# Altium integrated library Linear Technology Power Management Switching Regulator LTC1174-LTC3901.IntLib: 2647 symbols (part 170 of 364)
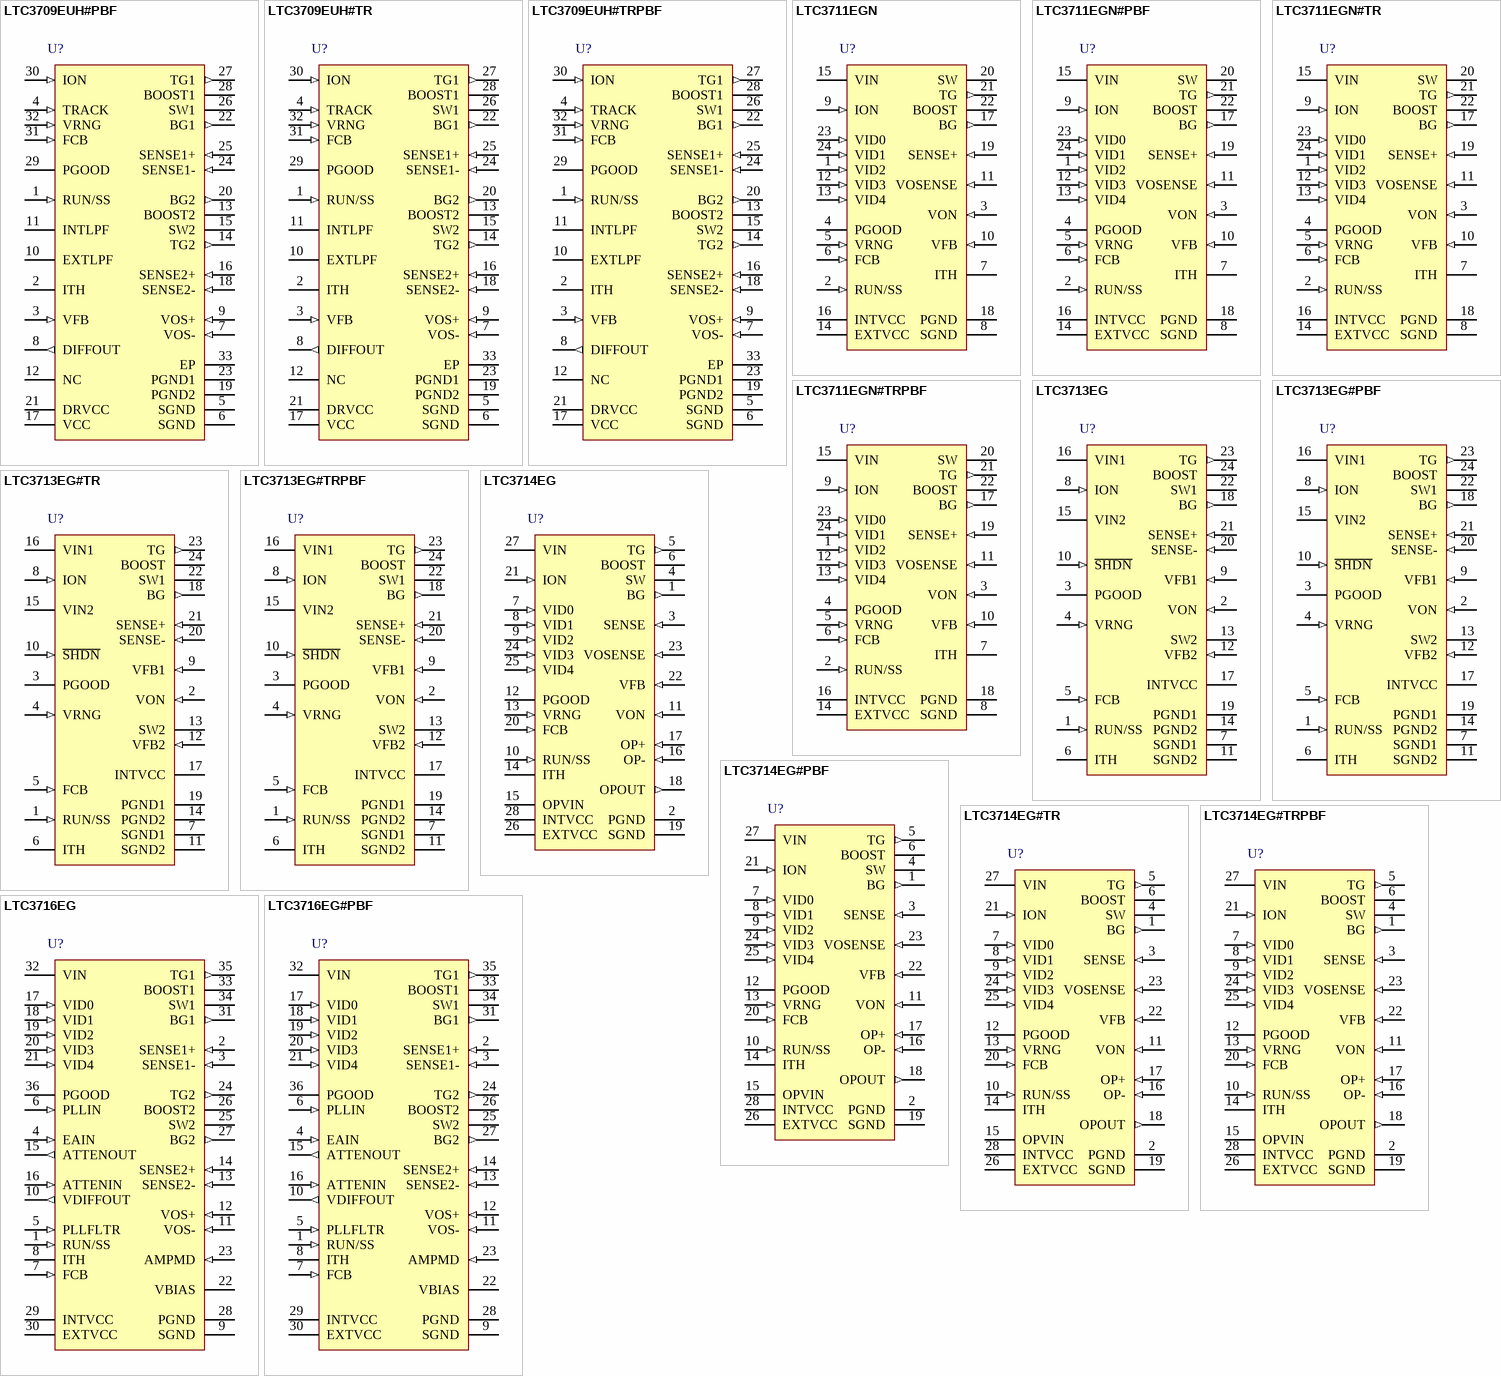
[diagram p202: symbols LTC3709EUH#PBF to LTC3716EG#PBF]

## LTC3709EUH#TR
designator U?
Fast 2-Phase, No Rsense Synchronous DC/DC Controller with Tracking / Sequencing, 32-pin QFN (UH-32), -40 to 85 degC, Tape and Reel; Manufacturer: Linear Technology; PartNumber: LTC3709EUH#TR; Number of Outputs: 1; DatasheetVersion: Rev. B; PackageVersion: Rev. D, 06/2010; PackageReference: UH-32; PackageDescription: 32-Pin Plastic QFN, Body 5 x 5 mm, Pitch 0.5 mm; Packing: Tape and Reel; RoHS: FALSE; Mounting Technology: Surface Mount; Code_JEDEC: MO-220; ComponentLink1Description: Manufacturer URL; ComponentLink1URL: http://www.linear.com/; ComponentLink2Description: Datasheet; ComponentLink2URL: http://cds.linear.com/docs/en/datasheet/3709fb.pdf; ComponentLink3Description: Package Specification; ComponentLink3URL: http://cds.linear.com/docs/en/packaging/QFN_32_05-08-1693.pdf
footprint LT-UH-32_N (QFN, 32-Leads, Body 5.1x5.1mm, Pitch 0.5mm, Thermal Pad 3.45X3.45mm, IPC Medium Density)
footprint LT-UH-32_L (QFN, 32-Leads, Body 5.1x5.1mm, Pitch 0.5mm, Thermal Pad 3.45X3.45mm, IPC High Density)
footprint LT-UH-32_M (QFN, 32-Leads, Body 5.1x5.1mm, Pitch 0.5mm, Thermal Pad 3.45X3.45mm, IPC Low Density)
pins: 1 RUN/SS (in) "Run Control and Soft-Start Input. A capacitor to ground at this pin sets the ramp rate of the output voltage (approximately 0.5s/uF) and the time delay for overcurrent latch-off (see Applications Information). Forcing this (See Datasheet)", 2 ITH "Error Amplifier Compensation Point. The current comparator threshold increases with this control voltage. The voltage ranges from 0V to 2.4V with 0.8V corresponding to zero sense voltage (zero current).", 3 VFB (in) "Error Amplifier Feedback Input. This pin connects to the error amplifier input. It can be used to attach additional compensation components if desired.", 4 TRACK (in) "Tie the TRACK pin to a resistive divider connected to the output of another LTC3709 for either coincident or ratiometric output tracking (see Applications Information). To disable this feature, tie the pin to VCC. Do Not (See Datasheet)", 5 SGND (power) "Signal Ground. All small-signal components such as CSS and compensation components should connect to this ground and eventually connect to PGND at one point. The Exposed Pad of the QFN package must be soldered to PCB ground.", 6 SGND (power) "Signal Ground. All small-signal components such as CSS and compensation components should connect to this ground and eventually connect to PGND at one point. The Exposed Pad of the QFN package must be soldered to PCB ground.", 7 VOS- (in) "The (-) Input to the Differential Amplifer.", 8 DIFFOUT (out) "The Output of the Differential Amplifier.", 9 VOS+ (in) "The (+) Input to the Differential Amplifier.", 10 EXTLPF "Filter Connection for the PLL. This PLL is used to synchronize the LTC3709 with an external clock.", 11 INTLPF "Filter Connection for the PLL. This PLL is use to phase shift the second channel to the first channel by 180degrees.", 12 NC "No Connect.", 13 BOOST2 "Boosted Floating Driver Supply. The (+) terminal of the bootstrap capacitor CB connects here. This pin swings from a diode voltage drop below DRVCC up to VIN + DRVCC.", 14 TG2 (out) "Top Gate Drive. Drives the top N-channel MOSFET with a voltage swing equal to DRVCC superimposed on the switch node voltage SW.", 15 SW2 "Switch Node. The (-) terminal of the bootstrap capacitor CB connects here. This pin swings from a Schottky diode voltage drop below ground up to VIN.", 16 SENSE2+ (in) "Current Sense Comparator Input. The (+) input to the current comparator is normally connected to the SW node unless using a sense resistor (see Applications Information).", 17 VCC (power) "Main Input Supply. Decouple this pin to SGND with an RC filter (1ohm, 0.1uF).", 18 SENSE2- (in) "Current Sense Comparator Input. The (-) input to the current comparator is used to accurately Kelvin sense the bottom side of the sense resistor or MOSFET.", 19 PGND2 (power) "Power Ground. Connect this pin closely to the source of the bottom Nchannel MOSFET, the (-) terminal of CDRVCC and the (-) terminal of CIN.", 20 BG2 (out) "Bottom Gate Drive. Drives the gate of the bottom N-channel MOSFET between ground and DRVCC.", 21 DRVCC (power) "Driver Supply. Provides supply to the driver for the bottom gate. Also used for charging the bootstrap capacitor.", 22 BG1 (out) "Bottom Gate Drive. Drives the gate of the bottom N-channel MOSFET between ground and DRVCC.", 23 PGND1 (power) "Power Ground. Connect this pin closely to the source of the bottom Nchannel MOSFET, the (-) terminal of CDRVCC and the (-) terminal of CIN.", 24 SENSE1- (in) "Current Sense Comparator Input. The (-) input to the current comparator is used to accurately Kelvin sense the bottom side of the sense resistor or MOSFET.", 25 SENSE1+ (in) "Current Sense Comparator Input. The (+) input to the current comparator is normally connected to the SW node unless using a sense resistor (see Applications Information).", 26 SW1 "Switch Node. The (-) terminal of the bootstrap capacitor CB connects here. This pin swings from a Schottky diode voltage drop below ground up to VIN.", 27 TG1 (out) "Top Gate Drive. Drives the top N-channel MOSFET with a voltage swing equal to DRVCC superimposed on the switch node voltage SW.", 28 BOOST1 "Boosted Floating Driver Supply. The (+) terminal of the bootstrap capacitor CB connects here. This pin swings from a diode voltage drop below DRVCC up to VIN + DRVCC.", 29 PGOOD (oc) "Power Good Output. Open-drain logic output that is pulled to ground when output voltage is not within +/-10% of the regulation point. The output voltage must be out of regulation for at least 100us before the power good (See Datasheet)", 30 ION (in) "On-Time Current Input. Tie a resistor from VIN to this pin to set the one-shot timer current and thereby set the switching frequency.", 31 FCB (in) "Forced Continuous and External Clock Input. Tie this pin to ground to force continuous synchronous operation or to VCC to enable discontinuous mode operation at light load. Feeding an external clock signal into this pin will (See Datasheet)", 32 VRNG (in) "Sense Voltage Range Input. The voltage at this pin is ten times the nominal sense voltage at maximum output current and can be programmed from 0.5V to 2V. The sense voltage defaults to 70mV when this pin is tied to ground, (See Datasheet)", 33 EP (power) "Signal Ground. All small-signal components such as CSS and compensation components should connect to this ground and eventually connect to PGND at one point. The Exposed Pad of the QFN package must be soldered to PCB ground."

## LTC3709EUH#TRPBF
designator U?
Fast 2-Phase, No Rsense Synchronous DC/DC Controller with Tracking / Sequencing, 32-pin QFN (UH-32), -40 to 85 degC, Pb-Free, Tape and Reel; Manufacturer: Linear Technology; PartNumber: LTC3709EUH#TRPBF; Number of Outputs: 1; DatasheetVersion: Rev. B; PackageVersion: Rev. D, 06/2010; PackageReference: UH-32; PackageDescription: 32-Pin Plastic QFN, Body 5 x 5 mm, Pitch 0.5 mm; Supplier 1: Digi-Key; Supplier Part Number 1: LTC3709EUH#TRPBF-ND; Packing: Tape and Reel; RoHS: TRUE; Mounting Technology: Surface Mount; Code_JEDEC: MO-220; ComponentLink1Description: Manufacturer URL; ComponentLink1URL: http://www.linear.com/; ComponentLink2Description: Datasheet; ComponentLink2URL: http://cds.linear.com/docs/en/datasheet/3709fb.pdf; ComponentLink3Description: Package Specification; ComponentLink3URL: http://cds.linear.com/docs/en/packaging/QFN_32_05-08-1693.pdf
footprint LT-UH-32_N (QFN, 32-Leads, Body 5.1x5.1mm, Pitch 0.5mm, Thermal Pad 3.45X3.45mm, IPC Medium Density)
footprint LT-UH-32_L (QFN, 32-Leads, Body 5.1x5.1mm, Pitch 0.5mm, Thermal Pad 3.45X3.45mm, IPC High Density)
footprint LT-UH-32_M (QFN, 32-Leads, Body 5.1x5.1mm, Pitch 0.5mm, Thermal Pad 3.45X3.45mm, IPC Low Density)
pins: 1 RUN/SS (in) "Run Control and Soft-Start Input. A capacitor to ground at this pin sets the ramp rate of the output voltage (approximately 0.5s/uF) and the time delay for overcurrent latch-off (see Applications Information). Forcing this (See Datasheet)", 2 ITH "Error Amplifier Compensation Point. The current comparator threshold increases with this control voltage. The voltage ranges from 0V to 2.4V with 0.8V corresponding to zero sense voltage (zero current).", 3 VFB (in) "Error Amplifier Feedback Input. This pin connects to the error amplifier input. It can be used to attach additional compensation components if desired.", 4 TRACK (in) "Tie the TRACK pin to a resistive divider connected to the output of another LTC3709 for either coincident or ratiometric output tracking (see Applications Information). To disable this feature, tie the pin to VCC. Do Not (See Datasheet)", 5 SGND (power) "Signal Ground. All small-signal components such as CSS and compensation components should connect to this ground and eventually connect to PGND at one point. The Exposed Pad of the QFN package must be soldered to PCB ground.", 6 SGND (power) "Signal Ground. All small-signal components such as CSS and compensation components should connect to this ground and eventually connect to PGND at one point. The Exposed Pad of the QFN package must be soldered to PCB ground.", 7 VOS- (in) "The (-) Input to the Differential Amplifer.", 8 DIFFOUT (out) "The Output of the Differential Amplifier.", 9 VOS+ (in) "The (+) Input to the Differential Amplifier.", 10 EXTLPF "Filter Connection for the PLL. This PLL is used to synchronize the LTC3709 with an external clock.", 11 INTLPF "Filter Connection for the PLL. This PLL is use to phase shift the second channel to the first channel by 180degrees.", 12 NC "No Connect.", 13 BOOST2 "Boosted Floating Driver Supply. The (+) terminal of the bootstrap capacitor CB connects here. This pin swings from a diode voltage drop below DRVCC up to VIN + DRVCC.", 14 TG2 (out) "Top Gate Drive. Drives the top N-channel MOSFET with a voltage swing equal to DRVCC superimposed on the switch node voltage SW.", 15 SW2 "Switch Node. The (-) terminal of the bootstrap capacitor CB connects here. This pin swings from a Schottky diode voltage drop below ground up to VIN.", 16 SENSE2+ (in) "Current Sense Comparator Input. The (+) input to the current comparator is normally connected to the SW node unless using a sense resistor (see Applications Information).", 17 VCC (power) "Main Input Supply. Decouple this pin to SGND with an RC filter (1ohm, 0.1uF).", 18 SENSE2- (in) "Current Sense Comparator Input. The (-) input to the current comparator is used to accurately Kelvin sense the bottom side of the sense resistor or MOSFET.", 19 PGND2 (power) "Power Ground. Connect this pin closely to the source of the bottom Nchannel MOSFET, the (-) terminal of CDRVCC and the (-) terminal of CIN.", 20 BG2 (out) "Bottom Gate Drive. Drives the gate of the bottom N-channel MOSFET between ground and DRVCC.", 21 DRVCC (power) "Driver Supply. Provides supply to the driver for the bottom gate. Also used for charging the bootstrap capacitor.", 22 BG1 (out) "Bottom Gate Drive. Drives the gate of the bottom N-channel MOSFET between ground and DRVCC.", 23 PGND1 (power) "Power Ground. Connect this pin closely to the source of the bottom Nchannel MOSFET, the (-) terminal of CDRVCC and the (-) terminal of CIN.", 24 SENSE1- (in) "Current Sense Comparator Input. The (-) input to the current comparator is used to accurately Kelvin sense the bottom side of the sense resistor or MOSFET.", 25 SENSE1+ (in) "Current Sense Comparator Input. The (+) input to the current comparator is normally connected to the SW node unless using a sense resistor (see Applications Information).", 26 SW1 "Switch Node. The (-) terminal of the bootstrap capacitor CB connects here. This pin swings from a Schottky diode voltage drop below ground up to VIN.", 27 TG1 (out) "Top Gate Drive. Drives the top N-channel MOSFET with a voltage swing equal to DRVCC superimposed on the switch node voltage SW.", 28 BOOST1 "Boosted Floating Driver Supply. The (+) terminal of the bootstrap capacitor CB connects here. This pin swings from a diode voltage drop below DRVCC up to VIN + DRVCC.", 29 PGOOD (oc) "Power Good Output. Open-drain logic output that is pulled to ground when output voltage is not within +/-10% of the regulation point. The output voltage must be out of regulation for at least 100us before the power good (See Datasheet)", 30 ION (in) "On-Time Current Input. Tie a resistor from VIN to this pin to set the one-shot timer current and thereby set the switching frequency.", 31 FCB (in) "Forced Continuous and External Clock Input. Tie this pin to ground to force continuous synchronous operation or to VCC to enable discontinuous mode operation at light load. Feeding an external clock signal into this pin will (See Datasheet)", 32 VRNG (in) "Sense Voltage Range Input. The voltage at this pin is ten times the nominal sense voltage at maximum output current and can be programmed from 0.5V to 2V. The sense voltage defaults to 70mV when this pin is tied to ground, (See Datasheet)", 33 EP (power) "Signal Ground. All small-signal components such as CSS and compensation components should connect to this ground and eventually connect to PGND at one point. The Exposed Pad of the QFN package must be soldered to PCB ground."

## LTC3711EGN
designator U?
5-Bit Adjustable, Wide Operating Range, No Rsense Step-Down Controller, 24-pin SOP (GN-24), -40 to 85 degC; Manufacturer: Linear Technology; PartNumber: LTC3711EGN; Number of Outputs: 1; PackageVersion: Rev. B, 03/2012; PackageReference: GN24; PackageDescription: 24-Pin Plastic SSOP , Body 8.5 x 3.9 mm, Pitch 0.635 mm; Supplier 1: Digi-Key; Supplier Part Number 1: LTC3711EGN-ND; RoHS: FALSE; Mounting Technology: Surface Mount; ComponentLink1Description: Manufacturer URL; ComponentLink1URL: http://www.linear.com/; ComponentLink2Description: Datasheet; ComponentLink2URL: http://cds.linear.com/docs/en/datasheet/3711f.pdf; ComponentLink3Description: Package Specification; ComponentLink3URL: http://cds.linear.com/docs/en/packaging/05081641_B_GN24.pdf
footprint LT-GN-24_N (SOP, 24-Leads, Body 8.7x4mm, Pitch 0.635mm, IPC Medium Density)
footprint LT-GN-24_L (SOP, 24-Leads, Body 8.7x4mm, Pitch 0.635mm, IPC High Density)
footprint LT-GN-24_M (SOP, 24-Leads, Body 8.7x4mm, Pitch 0.635mm, IPC Low Density)
pins: 1 VID2 (in) "VID Digital Inputs. The voltage identification (VID) code sets the internal feedback resistor divider ratio for different output voltages as shown in Table 1. If unconnected, the pins are pulled high by internal 2.5uA (See Datasheet)", 2 RUN/SS (in) "Run Control and Soft-Start Input. A capacitor to ground at this pin sets the ramp time to full output current (approximately 3s/uF) and the time delay for overcurrent latchoff (see Applications Information). Forcing this pin (See Datasheet)", 3 VON (in) "On-Time Voltage Input. Voltage trip point for the on-time comparator. Tying this pin to the output voltage makes the on-time proportional to VOUT. The comparator input defaults to 0.7V when the pin is grounded, 2.4V when the (See Datasheet)", 4 PGOOD (oc) "Power Good Output. Open drain logic output that is pulled to ground when the output voltage is not within +/-7.5% of the regulation point.", 5 VRNG (in) "Sense Voltage Range Input. The voltage at this pin is ten times the nominal sense voltage at maximum output current and can be set from 0.5V to 2V by a resistive divider from INTVCC. The nominal sense voltage defaults to (See Datasheet)", 6 FCB (in) "Forced Continuous Input. Tie this pin to ground to force continuous synchronous operation at low load, to INTVCC to enable discontinuous mode operation at low load or to a resistive divider from a secondary output when using (See Datasheet)", 7 ITH "Current Control Threshold and Error Amplifier Compensation Point. The current comparator threshold increases with this control voltage. The voltage ranges from 0V to 2.4V with 0.8V corresponding to zero sense voltage (zero (See Datasheet)", 8 SGND (power) "Signal Ground. All small-signal components and compensation components should connect to this ground, which in turn connects to PGND at one point.", 9 ION (in) "On-Time Current Input. Tie a resistor from VIN to this pin to set the one-shot timer current and thereby set the switching frequency.", 10 VFB (in) "Error Amplifier Feedback Input. This pin connects to both the error amplifier input and to the output of the internal resistive divider. It can be used to attach additional compensation components if desired.", 11 VOSENSE (in) "Output Voltage Sense. The output voltage connects here to the input of the internal resistive feedback divider.", 12 VID3 (in) "VID Digital Inputs. The voltage identification (VID) code sets the internal feedback resistor divider ratio for different output voltages as shown in Table 1. If unconnected, the pins are pulled high by internal 2.5uA (See Datasheet)", 13 VID4 (in) "VID Digital Inputs. The voltage identification (VID) code sets the internal feedback resistor divider ratio for different output voltages as shown in Table 1. If unconnected, the pins are pulled high by internal 2.5uA (See Datasheet)", 14 EXTVCC (power) "External VCC Input. When EXTVCC exceeds 4.7V, an internal switch connects this pin to INTVCC and shuts down the internal regulator so that controller and gate drive power is drawn from EXTVCC. Do not exceed 7V at this pin (See Datasheet)", 15 VIN (power) "Main Input Supply. Decouple this pin to PGND with an RC filter (1ohm, 0.1uF).", 16 INTVCC (power) "Internal 5V Regulator Output. The driver and control circuits are powered from this voltage. Decouple this pin to power ground with a minimum of 4.7uF low ESR tantalum capacitor.", 17 BG (out) "Bottom Gate Drive. Drives the gate of the bottom N-channel MOSFET between ground and INTVCC.", 18 PGND (power) "Power Ground. Connect this pin closely to the source of the bottom N-channel MOSFET, the (-) terminal of CVCC and the (-) terminal of CIN.", 19 SENSE+ (in) "Current Sense Comparator Input. The (+) input to the current comparator is normally connected to the SW node unless using a sense resistor (see Applications Information).", 20 SW "Switch Node. The (-) terminal of the bootstrap capacitor CB connects here. This pin swings from a diode voltage drop below ground up to VIN.", 21 TG (out) "Top Gate Drive. Drives the top N-channel MOSFET with a voltage swing equal to INTVCC superimposed on the switch node voltage SW.", 22 BOOST "Boosted Floating Driver Supply. The (+) terminal of the bootstrap capacitor CB connects here. This pin swings from a diode voltage drop below INTVCC up to VIN + INTVCC.", 23 VID0 (in) "VID Digital Inputs. The voltage identification (VID) code sets the internal feedback resistor divider ratio for different output voltages as shown in Table 1. If unconnected, the pins are pulled high by internal 2.5uA (See Datasheet)", 24 VID1 (in) "VID Digital Inputs. The voltage identification (VID) code sets the internal feedback resistor divider ratio for different output voltages as shown in Table 1. If unconnected, the pins are pulled high by internal 2.5uA (See Datasheet)"

## LTC3711EGN#PBF
designator U?
5-Bit Adjustable, Wide Operating Range, No Rsense Step-Down Controller, 24-pin SOP (GN-24), -40 to 85 degC, Pb-Free; Manufacturer: Linear Technology; PartNumber: LTC3711EGN#PBF; Number of Outputs: 1; PackageVersion: Rev. B, 03/2012; PackageReference: GN24; PackageDescription: 24-Pin Plastic SSOP , Body 8.5 x 3.9 mm, Pitch 0.635 mm; Supplier 1: Digi-Key; Supplier Part Number 1: LTC3711EGN#PBF-ND; RoHS: TRUE; Mounting Technology: Surface Mount; ComponentLink1Description: Manufacturer URL; ComponentLink1URL: http://www.linear.com/; ComponentLink2Description: Datasheet; ComponentLink2URL: http://cds.linear.com/docs/en/datasheet/3711f.pdf; ComponentLink3Description: Package Specification; ComponentLink3URL: http://cds.linear.com/docs/en/packaging/05081641_B_GN24.pdf
footprint LT-GN-24_N (SOP, 24-Leads, Body 8.7x4mm, Pitch 0.635mm, IPC Medium Density)
footprint LT-GN-24_L (SOP, 24-Leads, Body 8.7x4mm, Pitch 0.635mm, IPC High Density)
footprint LT-GN-24_M (SOP, 24-Leads, Body 8.7x4mm, Pitch 0.635mm, IPC Low Density)
pins: 1 VID2 (in) "VID Digital Inputs. The voltage identification (VID) code sets the internal feedback resistor divider ratio for different output voltages as shown in Table 1. If unconnected, the pins are pulled high by internal 2.5uA (See Datasheet)", 2 RUN/SS (in) "Run Control and Soft-Start Input. A capacitor to ground at this pin sets the ramp time to full output current (approximately 3s/uF) and the time delay for overcurrent latchoff (see Applications Information). Forcing this pin (See Datasheet)", 3 VON (in) "On-Time Voltage Input. Voltage trip point for the on-time comparator. Tying this pin to the output voltage makes the on-time proportional to VOUT. The comparator input defaults to 0.7V when the pin is grounded, 2.4V when the (See Datasheet)", 4 PGOOD (oc) "Power Good Output. Open drain logic output that is pulled to ground when the output voltage is not within +/-7.5% of the regulation point.", 5 VRNG (in) "Sense Voltage Range Input. The voltage at this pin is ten times the nominal sense voltage at maximum output current and can be set from 0.5V to 2V by a resistive divider from INTVCC. The nominal sense voltage defaults to (See Datasheet)", 6 FCB (in) "Forced Continuous Input. Tie this pin to ground to force continuous synchronous operation at low load, to INTVCC to enable discontinuous mode operation at low load or to a resistive divider from a secondary output when using (See Datasheet)", 7 ITH "Current Control Threshold and Error Amplifier Compensation Point. The current comparator threshold increases with this control voltage. The voltage ranges from 0V to 2.4V with 0.8V corresponding to zero sense voltage (zero (See Datasheet)", 8 SGND (power) "Signal Ground. All small-signal components and compensation components should connect to this ground, which in turn connects to PGND at one point.", 9 ION (in) "On-Time Current Input. Tie a resistor from VIN to this pin to set the one-shot timer current and thereby set the switching frequency.", 10 VFB (in) "Error Amplifier Feedback Input. This pin connects to both the error amplifier input and to the output of the internal resistive divider. It can be used to attach additional compensation components if desired.", 11 VOSENSE (in) "Output Voltage Sense. The output voltage connects here to the input of the internal resistive feedback divider.", 12 VID3 (in) "VID Digital Inputs. The voltage identification (VID) code sets the internal feedback resistor divider ratio for different output voltages as shown in Table 1. If unconnected, the pins are pulled high by internal 2.5uA (See Datasheet)", 13 VID4 (in) "VID Digital Inputs. The voltage identification (VID) code sets the internal feedback resistor divider ratio for different output voltages as shown in Table 1. If unconnected, the pins are pulled high by internal 2.5uA (See Datasheet)", 14 EXTVCC (power) "External VCC Input. When EXTVCC exceeds 4.7V, an internal switch connects this pin to INTVCC and shuts down the internal regulator so that controller and gate drive power is drawn from EXTVCC. Do not exceed 7V at this pin (See Datasheet)", 15 VIN (power) "Main Input Supply. Decouple this pin to PGND with an RC filter (1ohm, 0.1uF).", 16 INTVCC (power) "Internal 5V Regulator Output. The driver and control circuits are powered from this voltage. Decouple this pin to power ground with a minimum of 4.7uF low ESR tantalum capacitor.", 17 BG (out) "Bottom Gate Drive. Drives the gate of the bottom N-channel MOSFET between ground and INTVCC.", 18 PGND (power) "Power Ground. Connect this pin closely to the source of the bottom N-channel MOSFET, the (-) terminal of CVCC and the (-) terminal of CIN.", 19 SENSE+ (in) "Current Sense Comparator Input. The (+) input to the current comparator is normally connected to the SW node unless using a sense resistor (see Applications Information).", 20 SW "Switch Node. The (-) terminal of the bootstrap capacitor CB connects here. This pin swings from a diode voltage drop below ground up to VIN.", 21 TG (out) "Top Gate Drive. Drives the top N-channel MOSFET with a voltage swing equal to INTVCC superimposed on the switch node voltage SW.", 22 BOOST "Boosted Floating Driver Supply. The (+) terminal of the bootstrap capacitor CB connects here. This pin swings from a diode voltage drop below INTVCC up to VIN + INTVCC.", 23 VID0 (in) "VID Digital Inputs. The voltage identification (VID) code sets the internal feedback resistor divider ratio for different output voltages as shown in Table 1. If unconnected, the pins are pulled high by internal 2.5uA (See Datasheet)", 24 VID1 (in) "VID Digital Inputs. The voltage identification (VID) code sets the internal feedback resistor divider ratio for different output voltages as shown in Table 1. If unconnected, the pins are pulled high by internal 2.5uA (See Datasheet)"

## LTC3711EGN#TR
designator U?
5-Bit Adjustable, Wide Operating Range, No Rsense Step-Down Controller, 24-pin SOP (GN-24), -40 to 85 degC, Tape and Reel; Manufacturer: Linear Technology; PartNumber: LTC3711EGN#TR; Number of Outputs: 1; PackageVersion: Rev. B, 03/2012; PackageReference: GN24; PackageDescription: 24-Pin Plastic SSOP , Body 8.5 x 3.9 mm, Pitch 0.635 mm; Supplier 1: Digi-Key; Supplier Part Number 1: LTC3711EGNTR-ND; Packing: Tape and Reel; RoHS: FALSE; Mounting Technology: Surface Mount; ComponentLink1Description: Manufacturer URL; ComponentLink1URL: http://www.linear.com/; ComponentLink2Description: Datasheet; ComponentLink2URL: http://cds.linear.com/docs/en/datasheet/3711f.pdf; ComponentLink3Description: Package Specification; ComponentLink3URL: http://cds.linear.com/docs/en/packaging/05081641_B_GN24.pdf
footprint LT-GN-24_N (SOP, 24-Leads, Body 8.7x4mm, Pitch 0.635mm, IPC Medium Density)
footprint LT-GN-24_L (SOP, 24-Leads, Body 8.7x4mm, Pitch 0.635mm, IPC High Density)
footprint LT-GN-24_M (SOP, 24-Leads, Body 8.7x4mm, Pitch 0.635mm, IPC Low Density)
pins: 1 VID2 (in) "VID Digital Inputs. The voltage identification (VID) code sets the internal feedback resistor divider ratio for different output voltages as shown in Table 1. If unconnected, the pins are pulled high by internal 2.5uA (See Datasheet)", 2 RUN/SS (in) "Run Control and Soft-Start Input. A capacitor to ground at this pin sets the ramp time to full output current (approximately 3s/uF) and the time delay for overcurrent latchoff (see Applications Information). Forcing this pin (See Datasheet)", 3 VON (in) "On-Time Voltage Input. Voltage trip point for the on-time comparator. Tying this pin to the output voltage makes the on-time proportional to VOUT. The comparator input defaults to 0.7V when the pin is grounded, 2.4V when the (See Datasheet)", 4 PGOOD (oc) "Power Good Output. Open drain logic output that is pulled to ground when the output voltage is not within +/-7.5% of the regulation point.", 5 VRNG (in) "Sense Voltage Range Input. The voltage at this pin is ten times the nominal sense voltage at maximum output current and can be set from 0.5V to 2V by a resistive divider from INTVCC. The nominal sense voltage defaults to (See Datasheet)", 6 FCB (in) "Forced Continuous Input. Tie this pin to ground to force continuous synchronous operation at low load, to INTVCC to enable discontinuous mode operation at low load or to a resistive divider from a secondary output when using (See Datasheet)", 7 ITH "Current Control Threshold and Error Amplifier Compensation Point. The current comparator threshold increases with this control voltage. The voltage ranges from 0V to 2.4V with 0.8V corresponding to zero sense voltage (zero (See Datasheet)", 8 SGND (power) "Signal Ground. All small-signal components and compensation components should connect to this ground, which in turn connects to PGND at one point.", 9 ION (in) "On-Time Current Input. Tie a resistor from VIN to this pin to set the one-shot timer current and thereby set the switching frequency.", 10 VFB (in) "Error Amplifier Feedback Input. This pin connects to both the error amplifier input and to the output of the internal resistive divider. It can be used to attach additional compensation components if desired.", 11 VOSENSE (in) "Output Voltage Sense. The output voltage connects here to the input of the internal resistive feedback divider.", 12 VID3 (in) "VID Digital Inputs. The voltage identification (VID) code sets the internal feedback resistor divider ratio for different output voltages as shown in Table 1. If unconnected, the pins are pulled high by internal 2.5uA (See Datasheet)", 13 VID4 (in) "VID Digital Inputs. The voltage identification (VID) code sets the internal feedback resistor divider ratio for different output voltages as shown in Table 1. If unconnected, the pins are pulled high by internal 2.5uA (See Datasheet)", 14 EXTVCC (power) "External VCC Input. When EXTVCC exceeds 4.7V, an internal switch connects this pin to INTVCC and shuts down the internal regulator so that controller and gate drive power is drawn from EXTVCC. Do not exceed 7V at this pin (See Datasheet)", 15 VIN (power) "Main Input Supply. Decouple this pin to PGND with an RC filter (1ohm, 0.1uF).", 16 INTVCC (power) "Internal 5V Regulator Output. The driver and control circuits are powered from this voltage. Decouple this pin to power ground with a minimum of 4.7uF low ESR tantalum capacitor.", 17 BG (out) "Bottom Gate Drive. Drives the gate of the bottom N-channel MOSFET between ground and INTVCC.", 18 PGND (power) "Power Ground. Connect this pin closely to the source of the bottom N-channel MOSFET, the (-) terminal of CVCC and the (-) terminal of CIN.", 19 SENSE+ (in) "Current Sense Comparator Input. The (+) input to the current comparator is normally connected to the SW node unless using a sense resistor (see Applications Information).", 20 SW "Switch Node. The (-) terminal of the bootstrap capacitor CB connects here. This pin swings from a diode voltage drop below ground up to VIN.", 21 TG (out) "Top Gate Drive. Drives the top N-channel MOSFET with a voltage swing equal to INTVCC superimposed on the switch node voltage SW.", 22 BOOST "Boosted Floating Driver Supply. The (+) terminal of the bootstrap capacitor CB connects here. This pin swings from a diode voltage drop below INTVCC up to VIN + INTVCC.", 23 VID0 (in) "VID Digital Inputs. The voltage identification (VID) code sets the internal feedback resistor divider ratio for different output voltages as shown in Table 1. If unconnected, the pins are pulled high by internal 2.5uA (See Datasheet)", 24 VID1 (in) "VID Digital Inputs. The voltage identification (VID) code sets the internal feedback resistor divider ratio for different output voltages as shown in Table 1. If unconnected, the pins are pulled high by internal 2.5uA (See Datasheet)"

## LTC3711EGN#TRPBF
designator U?
5-Bit Adjustable, Wide Operating Range, No Rsense Step-Down Controller, 24-pin SOP (GN-24), -40 to 85 degC, Pb-Free, Tape and Reel; Manufacturer: Linear Technology; PartNumber: LTC3711EGN#TRPBF; Number of Outputs: 1; PackageVersion: Rev. B, 03/2012; PackageReference: GN24; PackageDescription: 24-Pin Plastic SSOP , Body 8.5 x 3.9 mm, Pitch 0.635 mm; Supplier 1: Digi-Key; Supplier Part Number 1: LTC3711EGN#TRPBF-ND; Packing: Tape and Reel; RoHS: TRUE; Mounting Technology: Surface Mount; ComponentLink1Description: Manufacturer URL; ComponentLink1URL: http://www.linear.com/; ComponentLink2Description: Datasheet; ComponentLink2URL: http://cds.linear.com/docs/en/datasheet/3711f.pdf; ComponentLink3Description: Package Specification; ComponentLink3URL: http://cds.linear.com/docs/en/packaging/05081641_B_GN24.pdf
footprint LT-GN-24_N (SOP, 24-Leads, Body 8.7x4mm, Pitch 0.635mm, IPC Medium Density)
footprint LT-GN-24_L (SOP, 24-Leads, Body 8.7x4mm, Pitch 0.635mm, IPC High Density)
footprint LT-GN-24_M (SOP, 24-Leads, Body 8.7x4mm, Pitch 0.635mm, IPC Low Density)
pins: 1 VID2 (in) "VID Digital Inputs. The voltage identification (VID) code sets the internal feedback resistor divider ratio for different output voltages as shown in Table 1. If unconnected, the pins are pulled high by internal 2.5uA (See Datasheet)", 2 RUN/SS (in) "Run Control and Soft-Start Input. A capacitor to ground at this pin sets the ramp time to full output current (approximately 3s/uF) and the time delay for overcurrent latchoff (see Applications Information). Forcing this pin (See Datasheet)", 3 VON (in) "On-Time Voltage Input. Voltage trip point for the on-time comparator. Tying this pin to the output voltage makes the on-time proportional to VOUT. The comparator input defaults to 0.7V when the pin is grounded, 2.4V when the (See Datasheet)", 4 PGOOD (oc) "Power Good Output. Open drain logic output that is pulled to ground when the output voltage is not within +/-7.5% of the regulation point.", 5 VRNG (in) "Sense Voltage Range Input. The voltage at this pin is ten times the nominal sense voltage at maximum output current and can be set from 0.5V to 2V by a resistive divider from INTVCC. The nominal sense voltage defaults to (See Datasheet)", 6 FCB (in) "Forced Continuous Input. Tie this pin to ground to force continuous synchronous operation at low load, to INTVCC to enable discontinuous mode operation at low load or to a resistive divider from a secondary output when using (See Datasheet)", 7 ITH "Current Control Threshold and Error Amplifier Compensation Point. The current comparator threshold increases with this control voltage. The voltage ranges from 0V to 2.4V with 0.8V corresponding to zero sense voltage (zero (See Datasheet)", 8 SGND (power) "Signal Ground. All small-signal components and compensation components should connect to this ground, which in turn connects to PGND at one point.", 9 ION (in) "On-Time Current Input. Tie a resistor from VIN to this pin to set the one-shot timer current and thereby set the switching frequency.", 10 VFB (in) "Error Amplifier Feedback Input. This pin connects to both the error amplifier input and to the output of the internal resistive divider. It can be used to attach additional compensation components if desired.", 11 VOSENSE (in) "Output Voltage Sense. The output voltage connects here to the input of the internal resistive feedback divider.", 12 VID3 (in) "VID Digital Inputs. The voltage identification (VID) code sets the internal feedback resistor divider ratio for different output voltages as shown in Table 1. If unconnected, the pins are pulled high by internal 2.5uA (See Datasheet)", 13 VID4 (in) "VID Digital Inputs. The voltage identification (VID) code sets the internal feedback resistor divider ratio for different output voltages as shown in Table 1. If unconnected, the pins are pulled high by internal 2.5uA (See Datasheet)", 14 EXTVCC (power) "External VCC Input. When EXTVCC exceeds 4.7V, an internal switch connects this pin to INTVCC and shuts down the internal regulator so that controller and gate drive power is drawn from EXTVCC. Do not exceed 7V at this pin (See Datasheet)", 15 VIN (power) "Main Input Supply. Decouple this pin to PGND with an RC filter (1ohm, 0.1uF).", 16 INTVCC (power) "Internal 5V Regulator Output. The driver and control circuits are powered from this voltage. Decouple this pin to power ground with a minimum of 4.7uF low ESR tantalum capacitor.", 17 BG (out) "Bottom Gate Drive. Drives the gate of the bottom N-channel MOSFET between ground and INTVCC.", 18 PGND (power) "Power Ground. Connect this pin closely to the source of the bottom N-channel MOSFET, the (-) terminal of CVCC and the (-) terminal of CIN.", 19 SENSE+ (in) "Current Sense Comparator Input. The (+) input to the current comparator is normally connected to the SW node unless using a sense resistor (see Applications Information).", 20 SW "Switch Node. The (-) terminal of the bootstrap capacitor CB connects here. This pin swings from a diode voltage drop below ground up to VIN.", 21 TG (out) "Top Gate Drive. Drives the top N-channel MOSFET with a voltage swing equal to INTVCC superimposed on the switch node voltage SW.", 22 BOOST "Boosted Floating Driver Supply. The (+) terminal of the bootstrap capacitor CB connects here. This pin swings from a diode voltage drop below INTVCC up to VIN + INTVCC.", 23 VID0 (in) "VID Digital Inputs. The voltage identification (VID) code sets the internal feedback resistor divider ratio for different output voltages as shown in Table 1. If unconnected, the pins are pulled high by internal 2.5uA (See Datasheet)", 24 VID1 (in) "VID Digital Inputs. The voltage identification (VID) code sets the internal feedback resistor divider ratio for different output voltages as shown in Table 1. If unconnected, the pins are pulled high by internal 2.5uA (See Datasheet)"

## LTC3713EG
designator U?
Low Input Voltage, High Power, No Rsense Synchronous Buck DC/DC Controller, 24-pin SOP (G-24), -40 to 85 degC; Manufacturer: Linear Technology; PartNumber: LTC3713EG; Number of Outputs: 1; DatasheetVersion: Rev. A; PackageVersion: Jun-10; PackageReference: G-24; PackageDescription: 24-Pin Plastic SSOP, Body 8.2 x 5.3 mm, Pitch 0.65 mm; Supplier 1: Digi-Key; Supplier Part Number 1: LTC3713EG-ND; RoHS: FALSE; Mounting Technology: Surface Mount; ComponentLink1Description: Manufacturer URL; ComponentLink1URL: http://www.linear.com/; ComponentLink2Description: Datasheet; ComponentLink2URL: http://cds.linear.com/docs/en/datasheet/3713fa.pdf; ComponentLink3Description: Package Specification; ComponentLink3URL: http://cds.linear.com/docs/en/packaging/SSOP_24_05-08-1640.pdf
footprint LT-G-24_N (SOP, 24-Leads, Body 8.5x5.6mm, Pitch 0.65mm, IPC Medium Density)
footprint LT-G-24_L (SOP, 24-Leads, Body 8.5x5.6mm, Pitch 0.65mm, IPC High Density)
footprint LT-G-24_M (SOP, 24-Leads, Body 8.5x5.6mm, Pitch 0.65mm, IPC Low Density)
pins: 1 RUN/SS (in) "Run Control and Soft-Start Input. A capacitor to ground at this pin sets the ramp time to full output current (approximately 3s/uF) and the time delay for overcurrent latchoff (see Applications Information). Forcing this pin (See Datasheet)", 2 VON (in) "On-Time Voltage Input. Voltage trip point for the on-time comparator. Tying this pin to the output voltage makes the on-time proportional to VOUT. The comparator input defaults to 0.7V when the pin is grounded, 2.4V when the (See Datasheet)", 3 PGOOD (oc) "Power Good Output. Open-drain logic output that is pulled to ground when the output voltage is not within +/-7.5% of the regulation point.", 4 VRNG (in) "Sense Voltage Range Input. The voltage at this pin is ten times the nominal sense voltage at maximum output current and can be set from 0.5V to 2V by a resistive divider from INTVCC. The nominal sense voltage defaults to (See Datasheet)", 5 FCB (in) "Forced Continuous Input. Tie this pin to ground to force continuous synchronous operation at low load, to INTVCC to enable discontinuous mode operation at low load or to a resistive divider from a secondary output when using (See Datasheet)", 6 ITH "Current Control Threshold and Error Amplifier Compensation Point. The current comparator threshold increases with this control voltage. The voltage ranges from 0V to 2.4V with 0.8V corresponding to zero sense voltage (zero (See Datasheet)", 7 SGND1 (power) "Signal Ground. All small-signal components and compensation components should connect to this ground, which in turn connects to PGND at one point.", 8 ION (in) "On-Time Current Input. Tie a resistor from VIN to this pin to set the one-shot timer current and thereby set the switching frequency.", 9 VFB1 (in) "Error Amplifier Feedback Input. This pin connects the error amplifier input to an external resistive divider from VOUT.", 10 ~{SHDN} (in) "Shutdown, Active Low. Tie to 1V or more to enable boost converter portion of the LTC3713. Ground to shut down.", 11 SGND2 (power) "Signal Ground. All small-signal components and compensation components should connect to this ground, which in turn connects to PGND at one point.", 12 VFB2 (in) "Boost Converter Feedback. The VFB2 pin is connected to INTVCC through a resistor divider to set the voltage on INTVCC. Set INTVCC voltage according to: VINTVCC = 1.23V(1 + RF4/RF3)", 13 SW2 (power) "Boost Converter Switch Pin. Connect inductor/diode for boost converter portion here. Minimize trace area at this pin to keep EMI down.", 14 PGND2 (power) "Power Ground. Connect these pins closely to the source of the bottom N-channel MOSFET, the (-) terminal of CVCC and the (-) terminal of CIN.", 15 VIN2 (power) "Input Supply Pin for Boost Converter Portion of LTC3713. Must be locally bypassed.", 16 VIN1 (power) "Main Input Supply. Decouple this pin to PGND with an RC filter (1ohm, 0.1uF).", 17 INTVCC (power) "Internal Regulator Output. The driver and control circuits are powered from this voltage. Decouple this pin to power ground with a minimum of 4.7uF low ESR tantalum or ceramic capacitor.", 18 BG (out) "Bottom Gate Drive. Drives the gate of the bottom N-channel MOSFET between ground and INTVCC.", 19 PGND1 (power) "Power Ground. Connect these pins closely to the source of the bottom N-channel MOSFET, the (-) terminal of CVCC and the (-) terminal of CIN.", 20 SENSE- (in) "Negative Current Sense Comparator Input. The (-) input to the current comparator is normally connected to power ground unless using a resistive divider from INTVCC (see Applications Information).", 21 SENSE+ (in) "Positive Current Sense Comparator Input. The (+) input to the current comparator is normally connected to the SW1 node unless using a sense resistor (see Applications Information).", 22 SW1 "Switch Node. The (-) terminal of the bootstrap capacitor CB connects here. This pin swings from a diode voltage drop below ground up to VIN.", 23 TG (out) "Top Gate Drive. Drives the top N-channel MOSFET with a voltage swing equal to INTVCC superimposed on the switch node voltage SW1.", 24 BOOST "Boosted Floating Driver Supply. The (+) terminal of the bootstrap capacitor CB connects here. This pin swings from a diode voltage drop below INTVCC up to VIN + INTVCC."

## LTC3713EG#PBF
designator U?
Low Input Voltage, High Power, No Rsense Synchronous Buck DC/DC Controller, 24-pin SOP (G-24), -40 to 85 degC, Pb-Free; Manufacturer: Linear Technology; PartNumber: LTC3713EG#PBF; Number of Outputs: 1; DatasheetVersion: Rev. A; PackageVersion: Jun-10; PackageReference: G-24; PackageDescription: 24-Pin Plastic SSOP, Body 8.2 x 5.3 mm, Pitch 0.65 mm; Supplier 1: Digi-Key; Supplier Part Number 1: LTC3713EG#PBF-ND; Supplier 2: Newark; Supplier Part Number 2: 56M8121; RoHS: TRUE; Mounting Technology: Surface Mount; ComponentLink1Description: Manufacturer URL; ComponentLink1URL: http://www.linear.com/; ComponentLink2Description: Datasheet; ComponentLink2URL: http://cds.linear.com/docs/en/datasheet/3713fa.pdf; ComponentLink3Description: Package Specification; ComponentLink3URL: http://cds.linear.com/docs/en/packaging/SSOP_24_05-08-1640.pdf
footprint LT-G-24_N (SOP, 24-Leads, Body 8.5x5.6mm, Pitch 0.65mm, IPC Medium Density)
footprint LT-G-24_L (SOP, 24-Leads, Body 8.5x5.6mm, Pitch 0.65mm, IPC High Density)
footprint LT-G-24_M (SOP, 24-Leads, Body 8.5x5.6mm, Pitch 0.65mm, IPC Low Density)
pins: 1 RUN/SS (in) "Run Control and Soft-Start Input. A capacitor to ground at this pin sets the ramp time to full output current (approximately 3s/uF) and the time delay for overcurrent latchoff (see Applications Information). Forcing this pin (See Datasheet)", 2 VON (in) "On-Time Voltage Input. Voltage trip point for the on-time comparator. Tying this pin to the output voltage makes the on-time proportional to VOUT. The comparator input defaults to 0.7V when the pin is grounded, 2.4V when the (See Datasheet)", 3 PGOOD (oc) "Power Good Output. Open-drain logic output that is pulled to ground when the output voltage is not within +/-7.5% of the regulation point.", 4 VRNG (in) "Sense Voltage Range Input. The voltage at this pin is ten times the nominal sense voltage at maximum output current and can be set from 0.5V to 2V by a resistive divider from INTVCC. The nominal sense voltage defaults to (See Datasheet)", 5 FCB (in) "Forced Continuous Input. Tie this pin to ground to force continuous synchronous operation at low load, to INTVCC to enable discontinuous mode operation at low load or to a resistive divider from a secondary output when using (See Datasheet)", 6 ITH "Current Control Threshold and Error Amplifier Compensation Point. The current comparator threshold increases with this control voltage. The voltage ranges from 0V to 2.4V with 0.8V corresponding to zero sense voltage (zero (See Datasheet)", 7 SGND1 (power) "Signal Ground. All small-signal components and compensation components should connect to this ground, which in turn connects to PGND at one point.", 8 ION (in) "On-Time Current Input. Tie a resistor from VIN to this pin to set the one-shot timer current and thereby set the switching frequency.", 9 VFB1 (in) "Error Amplifier Feedback Input. This pin connects the error amplifier input to an external resistive divider from VOUT.", 10 ~{SHDN} (in) "Shutdown, Active Low. Tie to 1V or more to enable boost converter portion of the LTC3713. Ground to shut down.", 11 SGND2 (power) "Signal Ground. All small-signal components and compensation components should connect to this ground, which in turn connects to PGND at one point.", 12 VFB2 (in) "Boost Converter Feedback. The VFB2 pin is connected to INTVCC through a resistor divider to set the voltage on INTVCC. Set INTVCC voltage according to: VINTVCC = 1.23V(1 + RF4/RF3)", 13 SW2 (power) "Boost Converter Switch Pin. Connect inductor/diode for boost converter portion here. Minimize trace area at this pin to keep EMI down.", 14 PGND2 (power) "Power Ground. Connect these pins closely to the source of the bottom N-channel MOSFET, the (-) terminal of CVCC and the (-) terminal of CIN.", 15 VIN2 (power) "Input Supply Pin for Boost Converter Portion of LTC3713. Must be locally bypassed.", 16 VIN1 (power) "Main Input Supply. Decouple this pin to PGND with an RC filter (1ohm, 0.1uF).", 17 INTVCC (power) "Internal Regulator Output. The driver and control circuits are powered from this voltage. Decouple this pin to power ground with a minimum of 4.7uF low ESR tantalum or ceramic capacitor.", 18 BG (out) "Bottom Gate Drive. Drives the gate of the bottom N-channel MOSFET between ground and INTVCC.", 19 PGND1 (power) "Power Ground. Connect these pins closely to the source of the bottom N-channel MOSFET, the (-) terminal of CVCC and the (-) terminal of CIN.", 20 SENSE- (in) "Negative Current Sense Comparator Input. The (-) input to the current comparator is normally connected to power ground unless using a resistive divider from INTVCC (see Applications Information).", 21 SENSE+ (in) "Positive Current Sense Comparator Input. The (+) input to the current comparator is normally connected to the SW1 node unless using a sense resistor (see Applications Information).", 22 SW1 "Switch Node. The (-) terminal of the bootstrap capacitor CB connects here. This pin swings from a diode voltage drop below ground up to VIN.", 23 TG (out) "Top Gate Drive. Drives the top N-channel MOSFET with a voltage swing equal to INTVCC superimposed on the switch node voltage SW1.", 24 BOOST "Boosted Floating Driver Supply. The (+) terminal of the bootstrap capacitor CB connects here. This pin swings from a diode voltage drop below INTVCC up to VIN + INTVCC."